# EAGLE library part ATTINY48 (library ScottSilver)
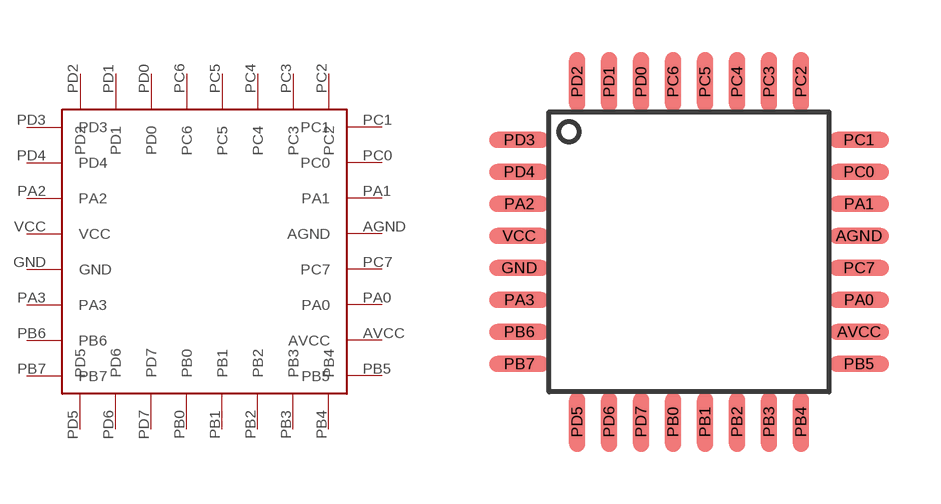
[diagram p1: symbol with the pads of ATTINY48; footprint ATTINY48]

Designator prefix -

## ATTINY48  [ATTINY48]
AGND  AGND
AVCC  AVCC
GND  GND
PA0  PA0
PA1  PA1
PA2  PA2
PA3  PA3
PB0  PB0
PB1  PB1
PB2  PB2
PB3  PB3
PB4  PB4
PB5  PB5
PB6  PB6
PB7  PB7
PC0  PC0
PC1  PC1
PC2  PC2
PC3  PC3
PC4  PC4
PC5  PC5
PC6  PC6
PC7  PC7
PD0  PD0
PD1  PD1
PD2  PD2
PD3  PD3
PD4  PD4
PD5  PD5
PD6  PD6
PD7  PD7
VCC  VCC

## Footprint ATTINY48 (pad centres in mm)
smd 1.5 x 0.406: AGND 4.25,0.4; AVCC 4.25,-2; GND -4.25,-0.4; PA0 4.25,-1.2; PA1 4.25,1.2; PA2 -4.25,1.2; PA3 -4.25,-1.2; PB5 4.25,-2.8; PB6 -4.25,-2; PB7 -4.25,-2.8; PC0 4.25,2; PC1 4.25,2.8; PC7 4.25,-0.4; PD3 -4.25,2.8; PD4 -4.25,2; VCC -4.25,0.4
smd 0.406 x 1.5: PB0 -0.4,-4.25; PB1 0.4,-4.25; PB2 1.2,-4.25; PB3 2,-4.25; PB4 2.8,-4.25; PC2 2.8,4.25; PC3 2,4.25; PC4 1.2,4.25; PC5 0.4,4.25; PC6 -0.4,4.25; PD0 -1.2,4.25; PD1 -2,4.25; PD2 -2.8,4.25; PD5 -2.8,-4.25; PD6 -2,-4.25; PD7 -1.2,-4.25